# Altium schematic symbol library Tx_board.SchLib: 57 symbols (part 3 of 3)
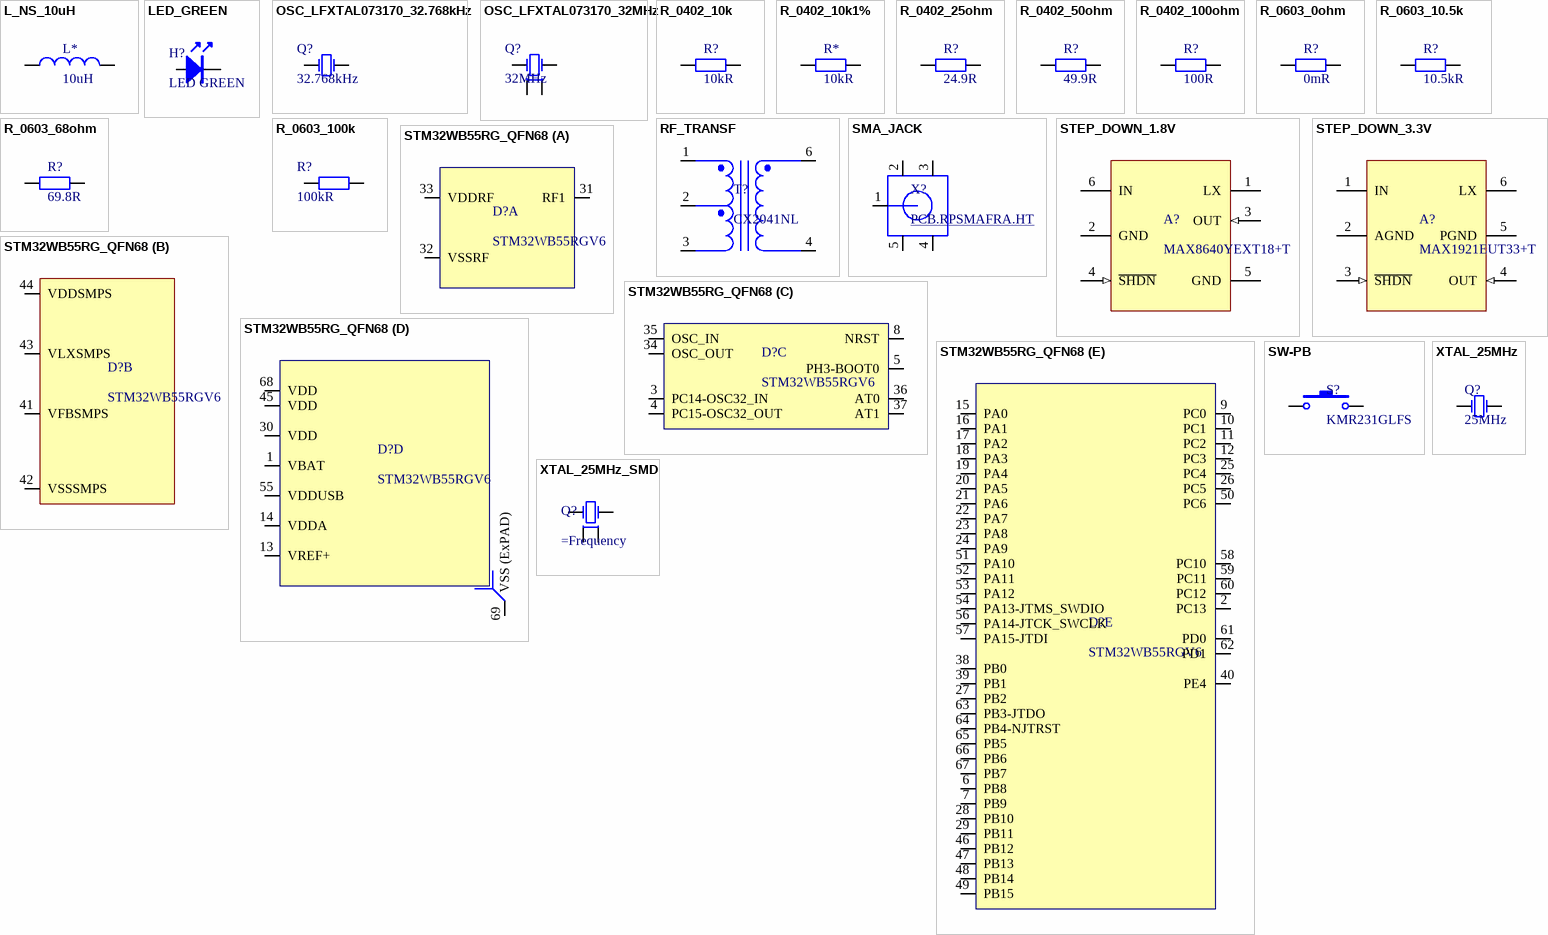
[diagram p3: symbols L_NS_10uH to XTAL_25MHz_SMD]

## STEP_DOWN_3.3V
designator A?, comment MAX1921EUT33+T
IC REG BUCK 3.3V 0.4A SYNC SOT23; Manufacturer: Maxim; Operating Supply Voltage: 5.5V; Number of Outputs: 1; Max Output Current: 400mA; Min Input Voltage: 2V; Switching Frequency: 1.2MHz; Synchronous Rectifier: Yes; Output Type: Fixed; Supplier 1: Digi-Key; Supplier Part Number 1: MAX1921EUT33+T-ND; Manufacturer Part Number: MAX1921EUT33+T; RoHS: Yes; Category: Voltage Regulators - Switching; Stock 1: 2377; Pricing 1: 1=3.15000, 10=2.83200, 25=2.67760, 100=2.20150, 250=1.97540, 500=1.90400, 1000=1.58270, 2500=1.52320, 5000=1.47560 (USD); Mount: Surface Mount; Case/Package: SOT-23-6; Number of Pins: 6; Min Operating Temperature: -40°C; Max Operating Temperature: 85°C; Output Voltage: 3.3V; Max Input Voltage: 5.5V; Packaging: Tape and Reel; Nominal Output Voltage: 3.3V; Package Quantity: 2500; Output Current: 400mA; Radiation Hardening: No; REACH SVHC: No SVHC; Lead Free: Lead Free; ComponentLink1URL: https://datasheet.ciiva.com/2039/max1920-max1921-2039218.pdf?src-supplier=Digi-Key; ComponentLink1Description: https://datasheet.ciiva.com/2039/max1920-max1921-2039218.pdf?src-supplier=Digi-Key; ComponentLink2URL: https://datasheet.ciiva.com/14304/max1920-max1921-14304967.pdf?src-supplier=Avnet; ComponentLink2Description: https://datasheet.ciiva.com/14304/max1920-max1921-14304967.pdf?src-supplier=Avnet; ComponentLink3URL: https://datasheet.ciiva.com/14304/max1920-max1921-14304968.pdf?src-supplier=Avnet; ComponentLink3Description: https://datasheet.ciiva.com/14304/max1920-max1921-14304968.pdf?src-supplier=Avnet; ComponentLink4URL: https://datasheet.ciiva.com/17367/max1920-max1921-17367933.pdf?src-supplier=Avnet+Europe; ComponentLink4Description: https://datasheet.ciiva.com/17367/max1920-max1921-17367933.pdf?src-supplier=Avnet+Europe
footprint SOT95P280X145-6N (SOT23, 6-Leads, Body 2.90x2.80mm, Pitch 0.95mm, IPC Medium Density)
pins: 1 IN (power), 2 AGND (power), 3 ~{SHDN} (in), 4 OUT (in), 5 PGND (power), 6 LX

## STM32WB55RG_QFN68
designator D?, comment STM32WB55RGV6
MCU 32-Bit STM32WB55 ARM Cortex M4 RISC 1MB Flash 1.7V to 3.6V 68-Pin VFQFPN Tray; Manufacturer: STMicroelectronics; Supplier 1: Digi-Key; Supplier Part Number 1: 497-18488-ND; Manufacturer Part Number: STM32WB55RGV6; Stock 1: 1177; Pricing 1: 1=9.72000, 10=8.78400, 25=8.37560, 100=7.27240, 250=6.94552, 500=6.33268, 1000=5.51556, 2500=5.31128, 5000=5.10700 (USD); ComponentLink1URL: http://www.farnell.com/datasheets/2792352.pdf?src-supplier=Farnell; ComponentLink1Description: http://www.farnell.com/datasheets/2792352.pdf?src-supplier=Farnell; ComponentLink2URL: http://www.farnell.com/datasheets/2792352.pdf?src-supplier=Newark; ComponentLink2Description: http://www.farnell.com/datasheets/2792352.pdf?src-supplier=Newark; ComponentLink3URL: http://datasheet.octopart.com/STM32WB55RGV6-STMicroelectronics-datasheet-133510350.pdf?src-supplier=Upverter; ComponentLink3Description: http://datasheet.octopart.com/STM32WB55RGV6-STMicroelectronics-datasheet-133510350.pdf?src-supplier=Upverter
footprint VFQFPN69
part A pins: 31 RF1, 32 VSSRF, 33 VDDRF
part B pins: 41 VFBSMPS, 42 VSSSMPS, 43 VLXSMPS, 44 VDDSMPS
part C pins: 3 PC14-OSC32_IN, 4 PC15-OSC32_OUT, 5 PH3-BOOT0, 8 NRST, 34 OSC_OUT, 35 OSC_IN, 36 AT0, 37 AT1
part D pins: 1 VBAT, 13 VREF+, 14 VDDA, 30 VDD, 45 VDD, 55 VDDUSB, 68 VDD, 69 VSS (ExPAD)
part E pins: 2 PC13, 6 PB8, 7 PB9, 9 PC0, 10 PC1, 11 PC2, 12 PC3, 15 PA0, 16 PA1, 17 PA2, 18 PA3, 19 PA4, 20 PA5, 21 PA6, 22 PA7, 23 PA8, 24 PA9, 25 PC4, 26 PC5, 27 PB2, 28 PB10, 29 PB11, 38 PB0, 39 PB1, 40 PE4, 46 PB12, 47 PB13, 48 PB14, 49 PB15, 50 PC6, 51 PA10, 52 PA11, 53 PA12, 54 PA13-JTMS_SWDIO, 56 PA14-JTCK_SWCLK, 57 PA15-JTDI, 58 PC10, 59 PC11, 60 PC12, 61 PD0, 62 PD1, 63 PB3-JTDO, 64 PB4-NJTRST, 65 PB5, 66 PB6, 67 PB7

## SW-PB
designator S?, comment KMR231GLFS
Switch Tactile N.O. SPST Button Gull Wing 0.05A 32VDC 1VA 150000Cycles 3N SMD T/R; Manufacturer: ITT C&K; Max Current Rating: 50mA; Max Voltage Rating (DC): 32V; Contact Resistance: 100mR; Power Rating: 1W; Illumination Type: Non-Illuminated,Illuminated; Insulation Resistance: 1GR; Switch Travel: 0.25mm; Switch Function: Off-Mom; Actuator Type: Standard; Actuator Length: 0.5mm; Supplier 1: Farnell; Supplier Part Number 1: 1437636; Manufacturer Part Number: KMR231GLFS; RoHS: Yes; Category: Tactile Switches; Stock 1: 33783; Pricing 1: 10=0.42000, 100=0.36300, 250=0.31300, 1000=0.24800, 2500=0.21000 (GBP); Mount: Surface Mount; Case/Package: SMD/SMT; Contact Plating: Silver; Mechanical Life: 150000Cycles; Contact Material: Silver; Min Operating Temperature: -40°C; Max Operating Temperature: 85°C; Throw Configuration: SPST; Operating Force: 3N; Termination: Gull Wing; Contact Current Rating: 50mA; Voltage Rating (DC): 32V; Packaging: Tape and Reel; Package Quantity: 1; Current Rating: 50mA; Orientation: Straight; Length: 2.8mm; Width: 4.6mm; Depth: 4.6mm; Radiation Hardening: No; REACH SVHC: No SVHC; Lead Free: Lead Free; ComponentLink1URL: https://datasheet.ciiva.com/29903/getdatasheetpartid-763492-29903765.pdf?src-supplier=Verical; ComponentLink1Description: https://datasheet.ciiva.com/29903/getdatasheetpartid-763492-29903765.pdf?src-supplier=Verical; ComponentLink2URL: https://datasheet.ciiva.com/7986/1792623-7986954.pdf?src-supplier=Element14; ComponentLink2Description: https://datasheet.ciiva.com/7986/1792623-7986954.pdf?src-supplier=Element14; ComponentLink3URL: https://datasheet.ciiva.com/16443/kmr231glfs-16443008.pdf?src-supplier=Future+Electronics; ComponentLink3Description: https://datasheet.ciiva.com/16443/kmr231glfs-16443008.pdf?src-supplier=Future+Electronics; ComponentLink4URL: https://datasheet.ciiva.com/16155/kmr231glfs-ckcomponents-16155429.pdf?src-supplier=Onlinecomponents.com; ComponentLink4Description: https://datasheet.ciiva.com/16155/kmr231glfs-ckcomponents-16155429.pdf?src-supplier=Onlinecomponents.com; ComponentLink5URL: https://datasheet.ciiva.com/2900/kmr2-9aug12-2900231.pdf?src-supplier=Digi-Key; ComponentLink5Description: https://datasheet.ciiva.com/2900/kmr2-9aug12-2900231.pdf?src-supplier=Digi-Key; ComponentLink6URL: https://datasheet.ciiva.com/2900/kmr2-9aug12-2900232.pdf?src-supplier=Digi-Key; ComponentLink6Description: https://datasheet.ciiva.com/2900/kmr2-9aug12-2900232.pdf?src-supplier=Digi-Key; ComponentLink7URL: https://datasheet.ciiva.com/2900/kmr2-9aug12-2900233.pdf?src-supplier=Digi-Key; ComponentLink7Description: https://datasheet.ciiva.com/2900/kmr2-9aug12-2900233.pdf?src-supplier=Digi-Key; ComponentLink8URL: https://datasheet.ciiva.com/26827/kmr2-9aug12-26827228.pdf?src-supplier=Verical; ComponentLink8Description: https://datasheet.ciiva.com/26827/kmr2-9aug12-26827228.pdf?src-supplier=Verical
footprint SW-PB SMD KMR2
pins: 1, 2

## XTAL_25MHz
designator Q?, comment 25MHz
CRYSTAL 25.0000MHZ 20PF SMD; Manufacturer: Fox Electronics; Manufacturer Part Number: FOXSDLF/250F-20; ESR (Equivalent Series Resistance): 30R; Tolerance: 50ppm; Frequency Tolerance: 30ppm; Supplier 1: Digi-Key; Supplier Part Number 1: 631-1022-1-ND; RoHS: Yes; Category: Crystals; Stock 1: 26161; Pricing 1: 1=0.32000, 10=0.26300, 50=0.23640, 100=0.21020, 500=0.19970 (USD); Mount: Surface Mount; Case/Package: SMD/SMT; Number of Pins: 2; Min Operating Temperature: -20°C; Max Operating Temperature: 70°C; Package Quantity: 1000; Frequency: 25MHz; Load Capacitance: 20pF; Packaging: Tape and Reel; Frequency Stability: 50ppm; Termination: SMD/SMT; Series Resistance: 30R; Length: 11.7mm; Height: 4.5mm; Depth: 5mm; Width: 5mm; Radiation Hardening: No; REACH SVHC: No SVHC; Lead Free: Lead Free; ComponentLink1URL: https://datasheet.ciiva.com/15116/getdatasheetpartid-720756-15116829.pdf?src-supplier=Verical; ComponentLink1Description: https://datasheet.ciiva.com/15116/getdatasheetpartid-720756-15116829.pdf?src-supplier=Verical; ComponentLink2URL: https://datasheet.ciiva.com/46385/hc49sdlf-46385544.pdf?src-supplier=Element14; ComponentLink2Description: https://datasheet.ciiva.com/46385/hc49sdlf-46385544.pdf?src-supplier=Element14; ComponentLink3URL: https://datasheet.ciiva.com/16213/hc49sdlf-16213659.pdf?src-supplier=Future+Electronics; ComponentLink3Description: https://datasheet.ciiva.com/16213/hc49sdlf-16213659.pdf?src-supplier=Future+Electronics; ComponentLink4URL: https://datasheet.ciiva.com/7645/hc49sdlf-7645100.pdf?src-supplier=Element14; ComponentLink4Description: https://datasheet.ciiva.com/7645/hc49sdlf-7645100.pdf?src-supplier=Element14; ComponentLink5URL: https://datasheet.ciiva.com/854/hc49sdlf-854333.pdf?src-supplier=Digi-Key; ComponentLink5Description: https://datasheet.ciiva.com/854/hc49sdlf-854333.pdf?src-supplier=Digi-Key; ComponentLink6URL: https://datasheet.ciiva.com/854/hc49sdlf-854335.pdf?src-supplier=Digi-Key; ComponentLink6Description: https://datasheet.ciiva.com/854/hc49sdlf-854335.pdf?src-supplier=Digi-Key; ComponentLink7URL: https://datasheet.ciiva.com/8047/hc49sdlf-8047719.pdf?src-supplier=Element14; ComponentLink7Description: https://datasheet.ciiva.com/8047/hc49sdlf-8047719.pdf?src-supplier=Element14; ComponentLink8URL: https://datasheet.ciiva.com/854/hc49sdlf-854334.pdf?src-supplier=Digi-Key; ComponentLink8Description: https://datasheet.ciiva.com/854/hc49sdlf-854334.pdf?src-supplier=Digi-Key
footprint XTAL_SMU4
pins: 1 OSC1, 2 OSC2

## XTAL_25MHz_SMD
designator Q?
Xtal 25MHZ 10PF SMD; Manufacturer: Raltron Electronics; Manufacturer Part Number: H130B-25.000-10-F-1010-EXT-TR; Supplier 1: Digi-Key; Supplier Part Number 1: 2151-H130B-25.000-10-F-1010-EXT-TRCT-ND; Stock 1: 983; Pricing 1: 1=0.86000, 10=0.75900, 50=0.70960, 100=0.62700, 500=0.59400 (USD); ComponentLink1URL: http://datasheet.octopart.com/H130B-25.000-10-F-1010-EXT-TR-Raltron-Electronics-datasheet-137142226.pdf?src-supplier=Raltron+Electronics; ComponentLink1Description: http://datasheet.octopart.com/H130B-25.000-10-F-1010-EXT-TR-Raltron-Electronics-datasheet-137142226.pdf?src-supplier=Raltron+Electronics; ComponentLink2URL: http://datasheet.octopart.com/H130B-25.000-10-F-1010-EXT-TR-Raltron-Electronics-datasheet-140254510.pdf?src-supplier=Raltron+Electronics; ComponentLink2Description: http://datasheet.octopart.com/H130B-25.000-10-F-1010-EXT-TR-Raltron-Electronics-datasheet-140254510.pdf?src-supplier=Raltron+Electronics
footprint XTAL_25MHz_SMD
pins: 1 OSC1, 2, 3 OSC2, 4